# Altium footprint library PcbLib1.PcbLib: 1 footprints
Each footprint in its own frame and in the unit in brackets; x right, y up, seen from the top. Pads: shape width x height; smd on the part's side, far side on the other; paste and mask are expansions set on the pad; w line width, h text height; cw(c..) or ccw(c..) is an arc to the next point about the centre after c.
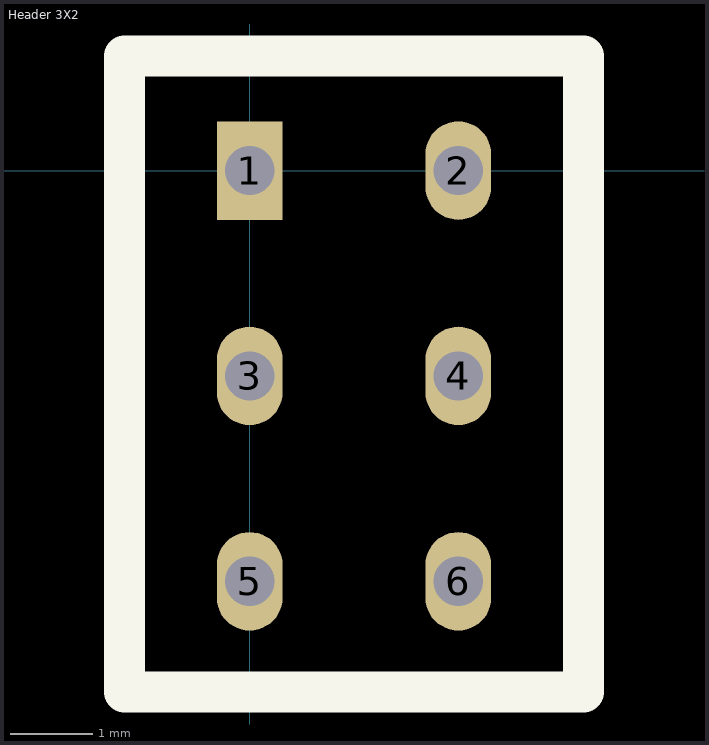
[diagram p0: the footprint, top view; thin cyan lines are the x and y axes]

## Header 3X2 [mm]
pads (6):
  rect 0.8x1.2 hole 0.6: 1(0,0)
  oval 0.8x1.2 hole 0.6: 2(2.54,0) 3(0,-2.5) 4(2.54,-2.5) 5(0,-5) 6(2.54,-5)
Top Overlay:
  lines w0.5: -1.524,-6.35 -1.524,1.397 4.064,1.397 4.064,-6.35 -1.524,-6.35
3D body "G800LQ593018DHR.stp": height 7.25, standoff -4.25, extent -1.074,-6.034 3.926,1.586